# EAGLE library part AS-ITM-00339 (library tinycircuits)
Sensor, Pulse Optical LGA
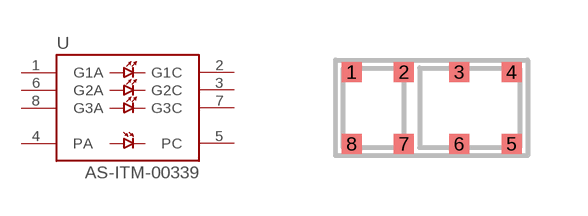
[diagram p134: symbol with the pads of SFH7051; footprint SFH7051]

Designator prefix U

## AS-ITM-00339 (PARTNO: AS-ITM-00339; VALUE: SFH7051)  [SFH7051]
1  G1A
2  G1C
3  G2C
4  PA
5  PC
6  G2A
7  G3C
8  G3A

## Footprint SFH7051 (pad centres in mm)
smd 0.5 x 0.5: 1 -2,0.9; 2 -0.69,0.9; 3 0.69,0.9; 4 2,0.9; 5 2,-0.9; 6 0.69,-0.9; 7 -0.69,-0.9; 8 -2,-0.9